# Altium schematic symbol library BAT20JFILM.SchLib: 1 symbol
Pins are listed as number, name and electrical type; pins without a type are passive.

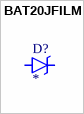
[diagram p0: symbol BAT20JFILM]

## BAT20JFILM
designator D?
Diode Schottky 23 V 1A Surface Mount SOD-323; MF: STMicroelectronics; MP: BAT20JFILM; SnapEDA_Link: https://www.snapeda.com/parts/BAT20JFILM/STMicroelectronics/view-part/?ref=snap; Package: SOD-323 STMicroelectronics; Value: *; Check_prices: https://www.snapeda.com/parts/BAT20JFILM/STMicroelectronics/view-part/?ref=eda
footprint SOD-323
pins: A, C